# EAGLE library part BSL215 (library AWJLEagleLib)
Infineon BSL215 dual N/P MOSFET
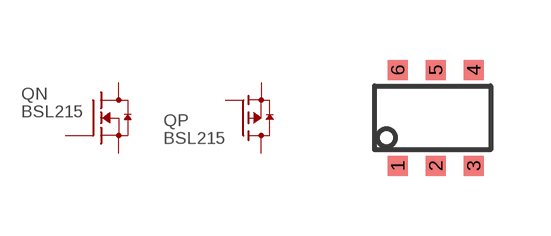
[diagram p21: symbol with the pads of 6TSOP; footprint 6TSOP]

Designator prefix Q; gates N=N-MOSFET-D P=P-MOSFET-D

## BSL215  [6TSOP]
1  N:G  pas
2  P:S  pas
3  P:G  pas
4  P:D  pas
5  N:S  pas
6  N:D  pas

## Footprint 6TSOP (pad centres in mm)
smd 0.5 x 0.5: 1 -0.925,-1.2; 2 0.025,-1.2; 3 0.975,-1.2; 4 0.975,1.2; 5 0.025,1.2; 6 -0.925,1.2